# Altium footprint library STM32L451VCT6.PcbLib: 3 footprints
Each footprint in its own frame and in the unit in brackets; x right, y up, seen from the top. Pads: shape width x height; smd on the part's side, far side on the other; paste and mask are expansions set on the pad; w line width, h text height; cw(c..) or ccw(c..) is an arc to the next point about the centre after c.
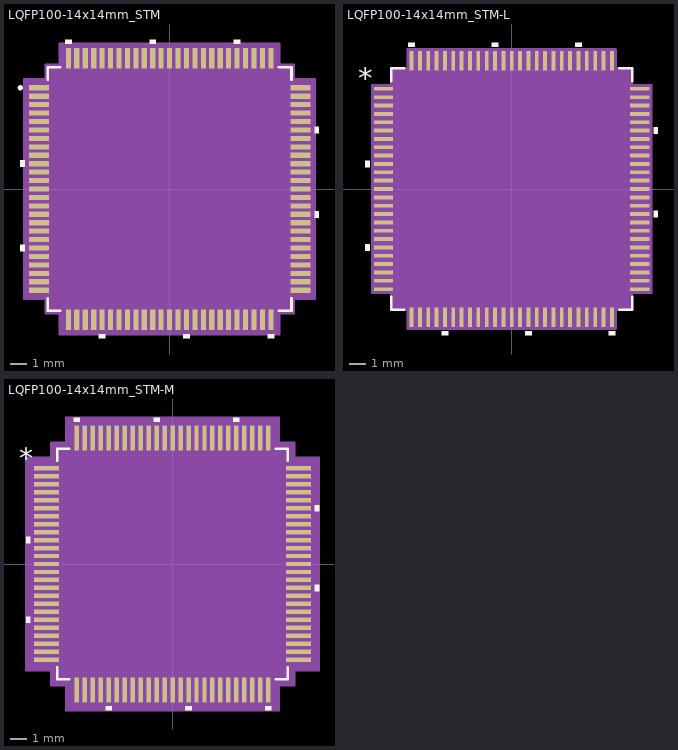
[diagram p0: the footprints below, top view; thin cyan lines are the x and y axes]

## LQFP100-14x14mm_STM [mil]
pads (100):
  rect 47x12 smd paste+0 mask+0: 1(-305.12,236.22) 2(-305.12,216.54) 3(-305.12,196.85) 4(-305.12,177.17) 5(-305.12,157.48) 6(-305.12,137.8) 7(-305.12,118.11) 8(-305.12,98.43) 9(-305.12,78.74) 10(-305.12,59.06) 11(-305.12,39.37) 12(-305.12,19.69) 13(-305.12,0) 14(-305.12,-19.68) 15(-305.12,-39.37) 16(-305.12,-59.06) 17(-305.12,-78.74) 18(-305.12,-98.43) 19(-305.12,-118.11) 20(-305.12,-137.8) 21(-305.12,-157.48) 22(-305.12,-177.17) 23(-305.12,-196.85) 24(-305.12,-216.54) 25(-305.12,-236.22) 51(305.12,-236.22) 52(305.12,-216.54) 53(305.12,-196.85) 54(305.12,-177.17) 55(305.12,-157.48) 56(305.12,-137.8) 57(305.12,-118.11) 58(305.12,-98.43) 59(305.12,-78.74) 60(305.12,-59.06) 61(305.12,-39.37) 62(305.12,-19.68) 63(305.12,0) 64(305.12,19.68) 65(305.12,39.37) 66(305.12,59.06) 67(305.12,78.74) 68(305.12,98.43) 69(305.12,118.11) 70(305.12,137.8) 71(305.12,157.48) 72(305.12,177.17) 73(305.12,196.85) 74(305.12,216.54) 75(305.12,236.22)
  rect 12x47 smd paste+0 mask+0: 26(-236.22,-305.12) 27(-216.54,-305.12) 28(-196.85,-305.12) 29(-177.17,-305.12) 30(-157.48,-305.12) 31(-137.8,-305.12) 32(-118.11,-305.12) 33(-98.43,-305.12) 34(-78.74,-305.12) 35(-59.06,-305.12) 36(-39.37,-305.12) 37(-19.68,-305.12) 38(0,-305.12) 39(19.68,-305.12) 40(39.37,-305.12) 41(59.06,-305.12) 42(78.74,-305.12) 43(98.43,-305.12) 44(118.11,-305.12) 45(137.8,-305.12) 46(157.48,-305.12) 47(177.17,-305.12) 48(196.85,-305.12) 49(216.54,-305.12) 50(236.22,-305.12) 76(236.22,305.12) 77(216.54,305.12) 78(196.85,305.12) 79(177.17,305.12) 80(157.48,305.12) 81(137.8,305.12) 82(118.11,305.12) 83(98.43,305.12) 84(78.74,305.12) 85(59.06,305.12) 86(39.37,305.12) 87(19.68,305.12) 88(0,305.12) 89(-19.68,305.12) 90(-39.37,305.12) 91(-59.06,305.12) 92(-78.74,305.12) 93(-98.43,305.12) 94(-118.11,305.12) 95(-137.8,305.12) 96(-157.48,305.12) 97(-177.17,305.12) 98(-196.85,305.12) 99(-216.54,305.12) 100(-236.22,305.12)
Top Overlay:
  circle w6: c-348.46,236.22 r3
  region: -338.62,66.56 -348.62,66.56 -348.62,51.56 -338.62,51.56
  region: -338.62,-130.3 -348.62,-130.3 -348.62,-145.3 -338.62,-145.3
  region: -149.98,-338.62 -164.98,-338.62 -164.98,-348.62 -149.98,-348.62
  region: 46.87,-338.62 31.87,-338.62 31.87,-348.62 46.87,-348.62
  region: 243.72,-338.62 228.72,-338.62 228.72,-348.62 243.72,-348.62
  region: 338.62,-51.56 348.62,-51.56 348.62,-66.56 338.62,-66.56
  region: 338.62,145.3 348.62,145.3 348.62,130.3 338.62,130.3
  region: 164.98,338.62 149.98,338.62 149.98,348.62 164.98,348.62
  region: -31.87,338.62 -46.87,338.62 -46.87,348.62 -31.87,348.62
  region: -228.72,338.62 -243.72,338.62 -243.72,348.62 -228.72,348.62
  lines w6: -284.5,-255.32 -284.5,-284.5 -255.32,-284.5 ; -284.5,255.32 -284.5,284.5 -255.32,284.5 ; 255.32,-284.5 284.5,-284.5 284.5,-255.32 ; 255.32,284.5 284.5,284.5 284.5,255.32
Mechanical 13:
  circle w0: c-256.62,236.22 r3
  lines w1: -279.5,229.5 -229.5,279.5 ; -279.5,-279.5 279.5,-279.5 279.5,279.5 -279.5,279.5 -279.5,-279.5
Mechanical 15:
  region: -256.22,-289.5 -289.5,-289.5 -289.5,-256.22 -338.62,-256.22 -338.62,256.22 -289.5,256.22 -289.5,289.5 -256.22,289.5 -256.22,338.62 256.22,338.62 256.22,289.5 289.5,289.5 289.5,256.22 338.62,256.22 338.62,-256.22 289.5,-256.22 289.5,-289.5 256.22,-289.5 256.22,-338.62 -256.22,-338.62
  lines w6: -338.62,-256.22 -289.5,-256.22 -289.5,-289.5 -256.22,-289.5 -256.22,-338.62 256.22,-338.62 256.22,-289.5 289.5,-289.5 289.5,-256.22 338.62,-256.22 338.62,256.22 289.5,256.22 289.5,289.5 256.22,289.5 256.22,338.62 -256.22,338.62 -256.22,289.5 -289.5,289.5 -289.5,256.22 -338.62,256.22 -338.62,-256.22
3D body "LQFP100-14x14mm_STM.step": height 63.11, standoff 0, extent -314.84,-314.84 314.84,314.84

## LQFP100-14x14mm_STM-L [mil]
pads (100):
  rect 45.5x9 smd paste+0 mask+0: 1(-302.25,236.22) 2(-302.25,216.54) 3(-302.25,196.85) 4(-302.25,177.17) 5(-302.25,157.48) 6(-302.25,137.8) 7(-302.25,118.11) 8(-302.25,98.43) 9(-302.25,78.74) 10(-302.25,59.06) 11(-302.25,39.37) 12(-302.25,19.69) 13(-302.25,0) 14(-302.25,-19.68) 15(-302.25,-39.37) 16(-302.25,-59.06) 17(-302.25,-78.74) 18(-302.25,-98.43) 19(-302.25,-118.11) 20(-302.25,-137.8) 21(-302.25,-157.48) 22(-302.25,-177.17) 23(-302.25,-196.85) 24(-302.25,-216.54) 25(-302.25,-236.22) 51(302.25,-236.22) 52(302.25,-216.54) 53(302.25,-196.85) 54(302.25,-177.17) 55(302.25,-157.48) 56(302.25,-137.8) 57(302.25,-118.11) 58(302.25,-98.43) 59(302.25,-78.74) 60(302.25,-59.06) 61(302.25,-39.37) 62(302.25,-19.68) 63(302.25,0) 64(302.25,19.68) 65(302.25,39.37) 66(302.25,59.06) 67(302.25,78.74) 68(302.25,98.43) 69(302.25,118.11) 70(302.25,137.8) 71(302.25,157.48) 72(302.25,177.17) 73(302.25,196.85) 74(302.25,216.54) 75(302.25,236.22)
  rect 9x45.5 smd paste+0 mask+0: 26(-236.22,-302.25) 27(-216.54,-302.25) 28(-196.85,-302.25) 29(-177.17,-302.25) 30(-157.48,-302.25) 31(-137.8,-302.25) 32(-118.11,-302.25) 33(-98.43,-302.25) 34(-78.74,-302.25) 35(-59.06,-302.25) 36(-39.37,-302.25) 37(-19.68,-302.25) 38(0,-302.25) 39(19.68,-302.25) 40(39.37,-302.25) 41(59.06,-302.25) 42(78.74,-302.25) 43(98.43,-302.25) 44(118.11,-302.25) 45(137.8,-302.25) 46(157.48,-302.25) 47(177.17,-302.25) 48(196.85,-302.25) 49(216.54,-302.25) 50(236.22,-302.25) 76(236.22,302.25) 77(216.54,302.25) 78(196.85,302.25) 79(177.17,302.25) 80(157.48,302.25) 81(137.8,302.25) 82(118.11,302.25) 83(98.43,302.25) 84(78.74,302.25) 85(59.06,302.25) 86(39.37,302.25) 87(19.68,302.25) 88(0,302.25) 89(-19.68,302.25) 90(-39.37,302.25) 91(-59.06,302.25) 92(-78.74,302.25) 93(-98.43,302.25) 94(-118.11,302.25) 95(-137.8,302.25) 96(-157.48,302.25) 97(-177.17,302.25) 98(-196.85,302.25) 99(-216.54,302.25) 100(-236.22,302.25)
Top Overlay:
  region: -335,66.56 -345,66.56 -345,51.56 -335,51.56
  region: -335,-130.3 -345,-130.3 -345,-145.3 -335,-145.3
  region: -149.98,-335 -164.98,-335 -164.98,-345 -149.98,-345
  region: 46.87,-335 31.87,-335 31.87,-345 46.87,-345
  region: 243.72,-335 228.72,-335 228.72,-345 243.72,-345
  region: 335,-51.56 345,-51.56 345,-66.56 335,-66.56
  region: 335,145.3 345,145.3 345,130.3 335,130.3
  region: 164.98,335 149.98,335 149.98,345 164.98,345
  region: -31.87,335 -46.87,335 -46.87,345 -31.87,345
  region: -228.72,335 -243.72,335 -243.72,345 -228.72,345
  lines w6: -284.5,-253.82 -284.5,-284.5 -253.82,-284.5 ; -284.5,253.82 -284.5,284.5 -253.82,284.5 ; 253.82,-284.5 284.5,-284.5 284.5,-253.82 ; 253.82,284.5 284.5,284.5 284.5,253.82
  text "*" at -362.5,236.06 h50
Mechanical 13:
  drawing of 409 lines, arcs and shapes, not listed
  text "*" at -277,221.06 h50
Mechanical 15:
  region: -244.72,-283.5 -283.5,-283.5 -283.5,-244.72 -329,-244.72 -329,244.72 -283.5,244.72 -283.5,283.5 -244.72,283.5 -244.72,329 244.72,329 244.72,283.5 283.5,283.5 283.5,244.72 329,244.72 329,-244.72 283.5,-244.72 283.5,-283.5 244.72,-283.5 244.72,-329 -244.72,-329
  lines w6: -329,-244.72 -283.5,-244.72 -283.5,-283.5 -244.72,-283.5 -244.72,-329 244.72,-329 244.72,-283.5 283.5,-283.5 283.5,-244.72 329,-244.72 329,244.72 283.5,244.72 283.5,283.5 244.72,283.5 244.72,329 -244.72,329 -244.72,283.5 -283.5,283.5 -283.5,244.72 -329,244.72 -329,-244.72
3D body "LQFP100-14x14mm_STM.step": height 63.11, standoff 0, extent -314.84,-314.84 314.84,314.84

## LQFP100-14x14mm_STM-M [mil]
pads (100):
  rect 61.5x11 smd paste+0 mask+0: 1(-310.25,236.22) 2(-310.25,216.54) 3(-310.25,196.85) 4(-310.25,177.17) 5(-310.25,157.48) 6(-310.25,137.8) 7(-310.25,118.11) 8(-310.25,98.43) 9(-310.25,78.74) 10(-310.25,59.06) 11(-310.25,39.37) 12(-310.25,19.69) 13(-310.25,0) 14(-310.25,-19.68) 15(-310.25,-39.37) 16(-310.25,-59.06) 17(-310.25,-78.74) 18(-310.25,-98.43) 19(-310.25,-118.11) 20(-310.25,-137.8) 21(-310.25,-157.48) 22(-310.25,-177.17) 23(-310.25,-196.85) 24(-310.25,-216.54) 25(-310.25,-236.22) 51(310.25,-236.22) 52(310.25,-216.54) 53(310.25,-196.85) 54(310.25,-177.17) 55(310.25,-157.48) 56(310.25,-137.8) 57(310.25,-118.11) 58(310.25,-98.43) 59(310.25,-78.74) 60(310.25,-59.06) 61(310.25,-39.37) 62(310.25,-19.68) 63(310.25,0) 64(310.25,19.68) 65(310.25,39.37) 66(310.25,59.06) 67(310.25,78.74) 68(310.25,98.43) 69(310.25,118.11) 70(310.25,137.8) 71(310.25,157.48) 72(310.25,177.17) 73(310.25,196.85) 74(310.25,216.54) 75(310.25,236.22)
  rect 11x61.5 smd paste+0 mask+0: 26(-236.22,-310.25) 27(-216.54,-310.25) 28(-196.85,-310.25) 29(-177.17,-310.25) 30(-157.48,-310.25) 31(-137.8,-310.25) 32(-118.11,-310.25) 33(-98.43,-310.25) 34(-78.74,-310.25) 35(-59.06,-310.25) 36(-39.37,-310.25) 37(-19.68,-310.25) 38(0,-310.25) 39(19.68,-310.25) 40(39.37,-310.25) 41(59.06,-310.25) 42(78.74,-310.25) 43(98.43,-310.25) 44(118.11,-310.25) 45(137.8,-310.25) 46(157.48,-310.25) 47(177.17,-310.25) 48(196.85,-310.25) 49(216.54,-310.25) 50(236.22,-310.25) 76(236.22,310.25) 77(216.54,310.25) 78(196.85,310.25) 79(177.17,310.25) 80(157.48,310.25) 81(137.8,310.25) 82(118.11,310.25) 83(98.43,310.25) 84(78.74,310.25) 85(59.06,310.25) 86(39.37,310.25) 87(19.68,310.25) 88(0,310.25) 89(-19.68,310.25) 90(-39.37,310.25) 91(-59.06,310.25) 92(-78.74,310.25) 93(-98.43,310.25) 94(-118.11,310.25) 95(-137.8,310.25) 96(-157.48,310.25) 97(-177.17,310.25) 98(-196.85,310.25) 99(-216.54,310.25) 100(-236.22,310.25)
Top Overlay:
  region: -351,66.56 -361,66.56 -361,51.56 -351,51.56
  region: -351,-130.3 -361,-130.3 -361,-145.3 -351,-145.3
  region: -149.98,-351 -164.98,-351 -164.98,-361 -149.98,-361
  region: 46.87,-351 31.87,-351 31.87,-361 46.87,-361
  region: 243.72,-351 228.72,-351 228.72,-361 243.72,-361
  region: 351,-51.56 361,-51.56 361,-66.56 351,-66.56
  region: 351,145.3 361,145.3 361,130.3 351,130.3
  region: 164.98,351 149.98,351 149.98,361 164.98,361
  region: -31.87,351 -46.87,351 -46.87,361 -31.87,361
  region: -228.72,351 -243.72,351 -243.72,361 -228.72,361
  lines w6: -284.5,-254.82 -284.5,-284.5 -254.82,-284.5 ; -284.5,254.82 -284.5,284.5 -254.82,284.5 ; 254.82,-284.5 284.5,-284.5 284.5,-254.82 ; 254.82,284.5 284.5,284.5 284.5,254.82
  text "*" at -378.5,236.06 h50
Mechanical 13:
  drawing of 409 lines, arcs and shapes, not listed
  text "*" at -277,221.06 h50
Mechanical 15:
  region: -261.72,-299.5 -299.5,-299.5 -299.5,-261.72 -361,-261.72 -361,261.72 -299.5,261.72 -299.5,299.5 -261.72,299.5 -261.72,361 261.72,361 261.72,299.5 299.5,299.5 299.5,261.72 361,261.72 361,-261.72 299.5,-261.72 299.5,-299.5 261.72,-299.5 261.72,-361 -261.72,-361
  lines w6: -361,-261.72 -299.5,-261.72 -299.5,-299.5 -261.72,-299.5 -261.72,-361 261.72,-361 261.72,-299.5 299.5,-299.5 299.5,-261.72 361,-261.72 361,261.72 299.5,261.72 299.5,299.5 261.72,299.5 261.72,361 -261.72,361 -261.72,299.5 -299.5,299.5 -299.5,261.72 -361,261.72 -361,-261.72
3D body "LQFP100-14x14mm_STM.step": height 63.11, standoff 0, extent -314.84,-314.84 314.84,314.84